# EAGLE library part STD020M12X1 (library con-pinheader-standard)
male standard header 2mm
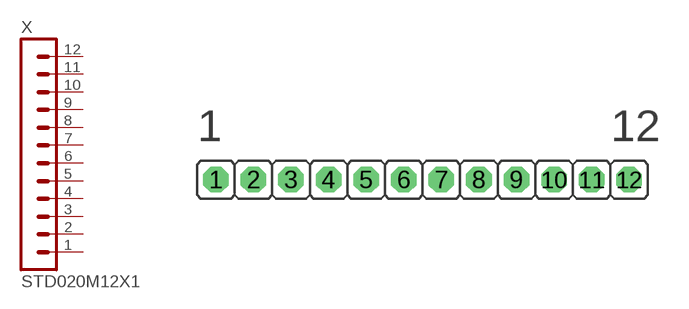
[diagram p41: symbol with the pads of STD020M12X1-2.00; footprint STD020M12X1-2.00]

Designator prefix X

## STD020M12X1-2.00MM  [STD020M12X1-2.00]
1  1  pas
2  2  pas
3  3  pas
4  4  pas
5  5  pas
6  6  pas
7  7  pas
8  8  pas
9  9  pas
10  10  pas
11  11  pas
12  12  pas

## Footprint STD020M12X1-2.00 (pad centres in mm)
male standard header 2mm
drill 0.85 octagon: 1 -11,0; 2 -9,0; 3 -7,0; 4 -5,0; 5 -3,0; 6 -1,0; 7 1,0; 8 3,0; 9 5,0; 10 7,0; 11 9,0; 12 11,0